# Altium schematic symbol library SCH - AMP AUDIO - ANALOG SSM2211S.SchLib: 1 symbol
Pins are listed as number, name and electrical type; pins without a type are passive.

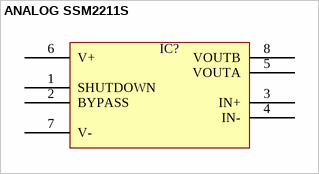
[diagram p0: symbol ANALOG SSM2211S]

## ANALOG SSM2211S
designator IC?  (value not drawn)
pins: 1 SHUTDOWN, 2 BYPASS, 3 IN+, 4 IN-, 5 VOUTA, 6 V+, 7 V-, 8 VOUTB